# Altium integrated library National Semiconductor Interface.IntLib: 1433 symbols (part 43 of 51)
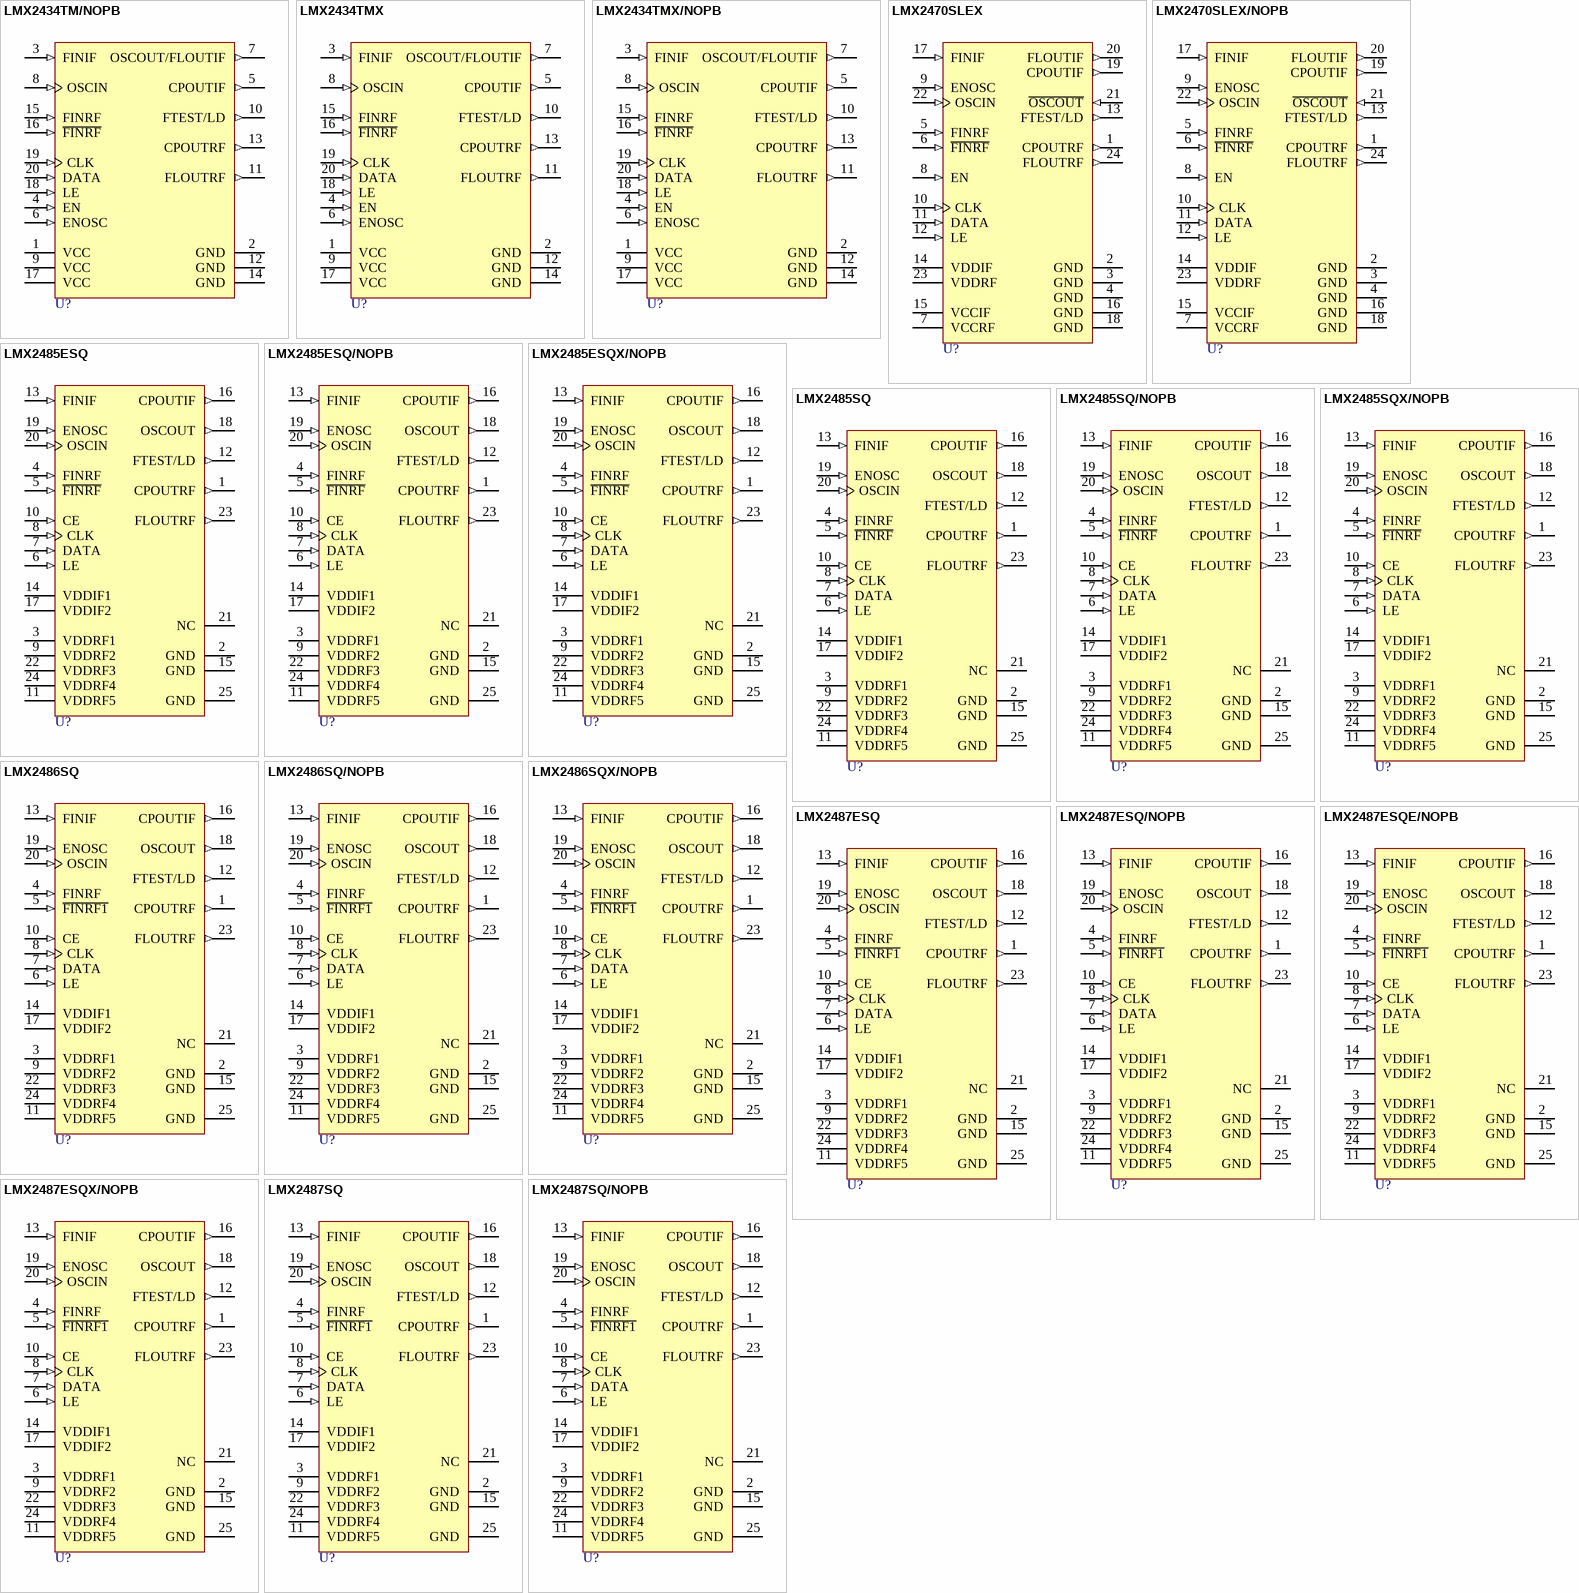
[diagram p166: symbols LMX2434TM/NOPB to LMX2487SQ/NOPB]

## LMX2470SLEX/NOPB
designator U?
2.6 GHz Delta-Sigma Fractional-N PLL with 800 MHz Integer-N PLL, 24-pin Laminate UCSP, Pb-Free; PartNumber: LMX2470SLEX/NOPB; Manufacturer: National Semiconductor; PackageTopMarking: NSXYTT*X2470*SLE; PowerWise: N; CompType: Interface IC; High-Reliability: Y; DatasheetVersion: Apr-2003; PackageVersion: revA, Jun-2001; PackageReference: SLE24A; PackageDescription: Ultra TCSP, Plastic, Laminated, 3.5 x 4.5 x 0.6mm Body, 24 Lead, .5mm Pitch; RoHS: Y; PinCount: 24; ComponentLink1Description: Manufacturer URL; ComponentLink1URL: http://www.national.com/; ComponentLink2Description: LMX2470 Datasheet; ComponentLink2URL: http://www.national.com/ds/LM/LMX2470.pdf; ComponentLink3Description: LMX2470 Web Page; ComponentLink3URL: http://www.national.com/pf/LM/LMX2470.html; ComponentLink4Description: SLE24A Package Page; ComponentLink4URL: http://www.national.com/packaging/folders/sle24a.html
footprint SLE24A (PQFN, 24-Leads (9x3 pads), Body 3.5x4.5mm, Pitch 0.5mm, NSC Recommended)
pins: 1 CPOUTRF (out), 2 GND (power), 3 GND (power), 4 GND (power), 5 FINRF (in), 6 ~{FINRF} (in), 7 VCCRF (power), 8 EN (in), 9 ENOSC (in), 10 CLK (in), 11 DATA (in), 12 LE (in), 13 FTEST/LD (out), 14 VDDIF (power), 15 VCCIF (power), 16 GND (power), 17 FINIF (in), 18 GND (power), 19 CPOUTIF (out), 20 FLOUTIF (out), 21 ~{OSCOUT} (in), 22 OSCIN (in), 23 VDDRF (power), 24 FLOUTRF (out)

## LMX2485ESQ
designator U?
Delta-Sigma Low Power Dual PLL for RF Personal Communications, 24-pin LLP; PartNumber: LMX2485ESQ; Manufacturer: National Semiconductor; PackageTopMarking: NS*UZXYTT*2485EDD; PowerWise: N; CompType: Interface IC; High-Reliability: Y; DatasheetVersion: Feb-2008; PackageVersion: revB, Aug-2003; PackageReference: SQA24A; PackageDescription: LLP, Plastic, Quad, 4 x 4 x 0.8mm Body, 24 Lead, 0.5mm Pitch, No Pullback; RoHS: Y; PinCount: 24; Code_JEDEC: MO-220-WGGD-6; ComponentLink1Description: Manufacturer URL; ComponentLink1URL: http://www.national.com/; ComponentLink2Description: LMX2485E Datasheet; ComponentLink2URL: http://www.national.com/ds/LM/LMX2485E.pdf; ComponentLink3Description: LMX2485E Web Page; ComponentLink3URL: http://www.national.com/pf/LM/LMX2485E.html; ComponentLink4Description: SQA24A Package Page; ComponentLink4URL: http://www.national.com/packaging/folders/sqa24a.html
footprint SQA24A (QFN, 24-Leads, Body 4x4mm, Pitch 0.5mm, Thermal Pad 2.7x2.7mm, NSC Recommended)
pins: 1 CPOUTRF (out), 2 GND (power), 3 VDDRF1 (power), 4 FINRF (in), 5 ~{FINRF} (in), 6 LE (in), 7 DATA (in), 8 CLK (in), 9 VDDRF2 (power), 10 CE (in), 11 VDDRF5 (power), 12 FTEST/LD (out), 13 FINIF (in), 14 VDDIF1 (power), 15 GND (power), 16 CPOUTIF (out), 17 VDDIF2 (power), 18 OSCOUT (out), 19 ENOSC (in), 20 OSCIN (in), 21 NC, 22 VDDRF3 (power), 23 FLOUTRF (out), 24 VDDRF4 (power), 25 GND (power)

## LMX2485ESQ/NOPB
designator U?
Delta-Sigma Low Power Dual PLL for RF Personal Communications, 24-pin LLP, Pb-Free; PartNumber: LMX2485ESQ/NOPB; Manufacturer: National Semiconductor; PackageTopMarking: NS*UZXYTT*2485EDD; PowerWise: N; CompType: Interface IC; High-Reliability: Y; DatasheetVersion: Feb-2008; PackageVersion: revB, Aug-2003; PackageReference: SQA24A; PackageDescription: LLP, Plastic, Quad, 4 x 4 x 0.8mm Body, 24 Lead, 0.5mm Pitch, No Pullback; RoHS: Y; PinCount: 24; Code_JEDEC: MO-220-WGGD-6; ComponentLink1Description: Manufacturer URL; ComponentLink1URL: http://www.national.com/; ComponentLink2Description: LMX2485E Datasheet; ComponentLink2URL: http://www.national.com/ds/LM/LMX2485E.pdf; ComponentLink3Description: LMX2485E Web Page; ComponentLink3URL: http://www.national.com/pf/LM/LMX2485E.html; ComponentLink4Description: SQA24A Package Page; ComponentLink4URL: http://www.national.com/packaging/folders/sqa24a.html
footprint SQA24A (QFN, 24-Leads, Body 4x4mm, Pitch 0.5mm, Thermal Pad 2.7x2.7mm, NSC Recommended)
pins: 1 CPOUTRF (out), 2 GND (power), 3 VDDRF1 (power), 4 FINRF (in), 5 ~{FINRF} (in), 6 LE (in), 7 DATA (in), 8 CLK (in), 9 VDDRF2 (power), 10 CE (in), 11 VDDRF5 (power), 12 FTEST/LD (out), 13 FINIF (in), 14 VDDIF1 (power), 15 GND (power), 16 CPOUTIF (out), 17 VDDIF2 (power), 18 OSCOUT (out), 19 ENOSC (in), 20 OSCIN (in), 21 NC, 22 VDDRF3 (power), 23 FLOUTRF (out), 24 VDDRF4 (power), 25 GND (power)

## LMX2485ESQX/NOPB
designator U?
Delta-Sigma Low Power Dual PLL for RF Personal Communications, 24-pin LLP, Pb-Free; PartNumber: LMX2485ESQX/NOPB; Manufacturer: National Semiconductor; PackageTopMarking: NS*UZXYTT*2485EDD; PowerWise: N; CompType: Interface IC; High-Reliability: Y; DatasheetVersion: Feb-2008; PackageVersion: revB, Aug-2003; PackageReference: SQA24A; PackageDescription: LLP, Plastic, Quad, 4 x 4 x 0.8mm Body, 24 Lead, 0.5mm Pitch, No Pullback; RoHS: Y; PinCount: 24; Code_JEDEC: MO-220-WGGD-6; ComponentLink1Description: Manufacturer URL; ComponentLink1URL: http://www.national.com/; ComponentLink2Description: LMX2485E Datasheet; ComponentLink2URL: http://www.national.com/ds/LM/LMX2485E.pdf; ComponentLink3Description: LMX2485E Web Page; ComponentLink3URL: http://www.national.com/pf/LM/LMX2485E.html; ComponentLink4Description: SQA24A Package Page; ComponentLink4URL: http://www.national.com/packaging/folders/sqa24a.html
footprint SQA24A (QFN, 24-Leads, Body 4x4mm, Pitch 0.5mm, Thermal Pad 2.7x2.7mm, NSC Recommended)
pins: 1 CPOUTRF (out), 2 GND (power), 3 VDDRF1 (power), 4 FINRF (in), 5 ~{FINRF} (in), 6 LE (in), 7 DATA (in), 8 CLK (in), 9 VDDRF2 (power), 10 CE (in), 11 VDDRF5 (power), 12 FTEST/LD (out), 13 FINIF (in), 14 VDDIF1 (power), 15 GND (power), 16 CPOUTIF (out), 17 VDDIF2 (power), 18 OSCOUT (out), 19 ENOSC (in), 20 OSCIN (in), 21 NC, 22 VDDRF3 (power), 23 FLOUTRF (out), 24 VDDRF4 (power), 25 GND (power)

## LMX2485SQ
designator U?
Delta-Sigma Low Power Dual PLL for RF Personal Communications, 24-pin LLP; PartNumber: LMX2485SQ; Manufacturer: National Semiconductor; PackageTopMarking: NS*UZXYTT*X2485DD; PowerWise: N; CompType: Interface IC; High-Reliability: Y; DatasheetVersion: Feb-2008; PackageVersion: revB, Aug-2003; PackageReference: SQA24A; PackageDescription: LLP, Plastic, Quad, 4 x 4 x 0.8mm Body, 24 Lead, 0.5mm Pitch, No Pullback; RoHS: Y; PinCount: 24; Code_JEDEC: MO-220-WGGD-6; ComponentLink1Description: Manufacturer URL; ComponentLink1URL: http://www.national.com/; ComponentLink2Description: LMX2485 Datasheet; ComponentLink2URL: http://www.national.com/ds/LM/LMX2485.pdf; ComponentLink3Description: LMX2485 Web Page; ComponentLink3URL: http://www.national.com/pf/LM/LMX2485.html; ComponentLink4Description: SQA24A Package Page; ComponentLink4URL: http://www.national.com/packaging/folders/sqa24a.html
footprint SQA24A (QFN, 24-Leads, Body 4x4mm, Pitch 0.5mm, Thermal Pad 2.7x2.7mm, NSC Recommended)
pins: 1 CPOUTRF (out), 2 GND (power), 3 VDDRF1 (power), 4 FINRF (in), 5 ~{FINRF} (in), 6 LE (in), 7 DATA (in), 8 CLK (in), 9 VDDRF2 (power), 10 CE (in), 11 VDDRF5 (power), 12 FTEST/LD (out), 13 FINIF (in), 14 VDDIF1 (power), 15 GND (power), 16 CPOUTIF (out), 17 VDDIF2 (power), 18 OSCOUT (out), 19 ENOSC (in), 20 OSCIN (in), 21 NC, 22 VDDRF3 (power), 23 FLOUTRF (out), 24 VDDRF4 (power), 25 GND (power)

## LMX2485SQ/NOPB
designator U?
Delta-Sigma Low Power Dual PLL for RF Personal Communications, 24-pin LLP, Pb-Free; PartNumber: LMX2485SQ/NOPB; Manufacturer: National Semiconductor; PackageTopMarking: NS*UZXYTT*X2485DD; PowerWise: N; CompType: Interface IC; High-Reliability: Y; DatasheetVersion: Feb-2008; PackageVersion: revB, Aug-2003; PackageReference: SQA24A; PackageDescription: LLP, Plastic, Quad, 4 x 4 x 0.8mm Body, 24 Lead, 0.5mm Pitch, No Pullback; RoHS: Y; PinCount: 24; Code_JEDEC: MO-220-WGGD-6; ComponentLink1Description: Manufacturer URL; ComponentLink1URL: http://www.national.com/; ComponentLink2Description: LMX2485 Datasheet; ComponentLink2URL: http://www.national.com/ds/LM/LMX2485.pdf; ComponentLink3Description: LMX2485 Web Page; ComponentLink3URL: http://www.national.com/pf/LM/LMX2485.html; ComponentLink4Description: SQA24A Package Page; ComponentLink4URL: http://www.national.com/packaging/folders/sqa24a.html
footprint SQA24A (QFN, 24-Leads, Body 4x4mm, Pitch 0.5mm, Thermal Pad 2.7x2.7mm, NSC Recommended)
pins: 1 CPOUTRF (out), 2 GND (power), 3 VDDRF1 (power), 4 FINRF (in), 5 ~{FINRF} (in), 6 LE (in), 7 DATA (in), 8 CLK (in), 9 VDDRF2 (power), 10 CE (in), 11 VDDRF5 (power), 12 FTEST/LD (out), 13 FINIF (in), 14 VDDIF1 (power), 15 GND (power), 16 CPOUTIF (out), 17 VDDIF2 (power), 18 OSCOUT (out), 19 ENOSC (in), 20 OSCIN (in), 21 NC, 22 VDDRF3 (power), 23 FLOUTRF (out), 24 VDDRF4 (power), 25 GND (power)

## LMX2485SQX/NOPB
designator U?
Delta-Sigma Low Power Dual PLL for RF Personal Communications, 24-pin LLP, Pb-Free; PartNumber: LMX2485SQX/NOPB; Manufacturer: National Semiconductor; PackageTopMarking: NS*UZXYTT*X2485DD; PowerWise: N; CompType: Interface IC; High-Reliability: Y; DatasheetVersion: Feb-2008; PackageVersion: revB, Aug-2003; PackageReference: SQA24A; PackageDescription: LLP, Plastic, Quad, 4 x 4 x 0.8mm Body, 24 Lead, 0.5mm Pitch, No Pullback; RoHS: Y; PinCount: 24; Code_JEDEC: MO-220-WGGD-6; ComponentLink1Description: Manufacturer URL; ComponentLink1URL: http://www.national.com/; ComponentLink2Description: LMX2485 Datasheet; ComponentLink2URL: http://www.national.com/ds/LM/LMX2485.pdf; ComponentLink3Description: LMX2485 Web Page; ComponentLink3URL: http://www.national.com/pf/LM/LMX2485.html; ComponentLink4Description: SQA24A Package Page; ComponentLink4URL: http://www.national.com/packaging/folders/sqa24a.html
footprint SQA24A (QFN, 24-Leads, Body 4x4mm, Pitch 0.5mm, Thermal Pad 2.7x2.7mm, NSC Recommended)
pins: 1 CPOUTRF (out), 2 GND (power), 3 VDDRF1 (power), 4 FINRF (in), 5 ~{FINRF} (in), 6 LE (in), 7 DATA (in), 8 CLK (in), 9 VDDRF2 (power), 10 CE (in), 11 VDDRF5 (power), 12 FTEST/LD (out), 13 FINIF (in), 14 VDDIF1 (power), 15 GND (power), 16 CPOUTIF (out), 17 VDDIF2 (power), 18 OSCOUT (out), 19 ENOSC (in), 20 OSCIN (in), 21 NC, 22 VDDRF3 (power), 23 FLOUTRF (out), 24 VDDRF4 (power), 25 GND (power)

## LMX2486SQ
designator U?
Delta-Sigma Low Power Dual PLL for RF Personal Communications, 24-pin LLP; PartNumber: LMX2486SQ; Manufacturer: National Semiconductor; PackageTopMarking: NS*UZXYTT*L2486SQ; PowerWise: N; CompType: Interface IC; High-Reliability: Y; DatasheetVersion: Jan-2006; PackageVersion: revB, Aug-2003; PackageReference: SQA24A; PackageDescription: LLP, Plastic, Quad, 4 x 4 x 0.8mm Body, 24 Lead, 0.5mm Pitch, No Pullback; RoHS: Y; PinCount: 24; Code_JEDEC: MO-220-WGGD-6; ComponentLink1Description: Manufacturer URL; ComponentLink1URL: http://www.national.com/; ComponentLink2Description: LMX2486 Datasheet; ComponentLink2URL: http://www.national.com/ds/LM/LMX2486.pdf; ComponentLink3Description: LMX2486 Web Page; ComponentLink3URL: http://www.national.com/pf/LM/LMX2486.html; ComponentLink4Description: SQA24A Package Page; ComponentLink4URL: http://www.national.com/packaging/folders/sqa24a.html
footprint SQA24A (QFN, 24-Leads, Body 4x4mm, Pitch 0.5mm, Thermal Pad 2.7x2.7mm, NSC Recommended)
pins: 1 CPOUTRF (out), 2 GND (power), 3 VDDRF1 (power), 4 FINRF (in), 5 ~{FINRF1} (in), 6 LE (in), 7 DATA (in), 8 CLK (in), 9 VDDRF2 (power), 10 CE (in), 11 VDDRF5 (power), 12 FTEST/LD (out), 13 FINIF (in), 14 VDDIF1 (power), 15 GND (power), 16 CPOUTIF (out), 17 VDDIF2 (power), 18 OSCOUT (out), 19 ENOSC (in), 20 OSCIN (in), 21 NC, 22 VDDRF3 (power), 23 FLOUTRF (out), 24 VDDRF4 (power), 25 GND (power)

## LMX2486SQ/NOPB
designator U?
Delta-Sigma Low Power Dual PLL for RF Personal Communications, 24-pin LLP, Pb-Free; PartNumber: LMX2486SQ/NOPB; Manufacturer: National Semiconductor; PackageTopMarking: NS*UZXYTT*L2486SQ; PowerWise: N; CompType: Interface IC; High-Reliability: Y; DatasheetVersion: Jan-2006; PackageVersion: revB, Aug-2003; PackageReference: SQA24A; PackageDescription: LLP, Plastic, Quad, 4 x 4 x 0.8mm Body, 24 Lead, 0.5mm Pitch, No Pullback; RoHS: Y; PinCount: 24; Code_JEDEC: MO-220-WGGD-6; ComponentLink1Description: Manufacturer URL; ComponentLink1URL: http://www.national.com/; ComponentLink2Description: LMX2486 Datasheet; ComponentLink2URL: http://www.national.com/ds/LM/LMX2486.pdf; ComponentLink3Description: LMX2486 Web Page; ComponentLink3URL: http://www.national.com/pf/LM/LMX2486.html; ComponentLink4Description: SQA24A Package Page; ComponentLink4URL: http://www.national.com/packaging/folders/sqa24a.html
footprint SQA24A (QFN, 24-Leads, Body 4x4mm, Pitch 0.5mm, Thermal Pad 2.7x2.7mm, NSC Recommended)
pins: 1 CPOUTRF (out), 2 GND (power), 3 VDDRF1 (power), 4 FINRF (in), 5 ~{FINRF1} (in), 6 LE (in), 7 DATA (in), 8 CLK (in), 9 VDDRF2 (power), 10 CE (in), 11 VDDRF5 (power), 12 FTEST/LD (out), 13 FINIF (in), 14 VDDIF1 (power), 15 GND (power), 16 CPOUTIF (out), 17 VDDIF2 (power), 18 OSCOUT (out), 19 ENOSC (in), 20 OSCIN (in), 21 NC, 22 VDDRF3 (power), 23 FLOUTRF (out), 24 VDDRF4 (power), 25 GND (power)

## LMX2486SQX/NOPB
designator U?
Delta-Sigma Low Power Dual PLL for RF Personal Communications, 24-pin LLP, Pb-Free; PartNumber: LMX2486SQX/NOPB; Manufacturer: National Semiconductor; PackageTopMarking: NS*UZXYTT*L2486SQ; PowerWise: N; CompType: Interface IC; High-Reliability: Y; DatasheetVersion: Jan-2006; PackageVersion: revB, Aug-2003; PackageReference: SQA24A; PackageDescription: LLP, Plastic, Quad, 4 x 4 x 0.8mm Body, 24 Lead, 0.5mm Pitch, No Pullback; RoHS: Y; PinCount: 24; Code_JEDEC: MO-220-WGGD-6; ComponentLink1Description: Manufacturer URL; ComponentLink1URL: http://www.national.com/; ComponentLink2Description: LMX2486 Datasheet; ComponentLink2URL: http://www.national.com/ds/LM/LMX2486.pdf; ComponentLink3Description: LMX2486 Web Page; ComponentLink3URL: http://www.national.com/pf/LM/LMX2486.html; ComponentLink4Description: SQA24A Package Page; ComponentLink4URL: http://www.national.com/packaging/folders/sqa24a.html
footprint SQA24A (QFN, 24-Leads, Body 4x4mm, Pitch 0.5mm, Thermal Pad 2.7x2.7mm, NSC Recommended)
pins: 1 CPOUTRF (out), 2 GND (power), 3 VDDRF1 (power), 4 FINRF (in), 5 ~{FINRF1} (in), 6 LE (in), 7 DATA (in), 8 CLK (in), 9 VDDRF2 (power), 10 CE (in), 11 VDDRF5 (power), 12 FTEST/LD (out), 13 FINIF (in), 14 VDDIF1 (power), 15 GND (power), 16 CPOUTIF (out), 17 VDDIF2 (power), 18 OSCOUT (out), 19 ENOSC (in), 20 OSCIN (in), 21 NC, 22 VDDRF3 (power), 23 FLOUTRF (out), 24 VDDRF4 (power), 25 GND (power)

## LMX2487ESQ
designator U?
Delta-Sigma Low Power Dual PLL for RF Personal Communications, 24-pin LLP; PartNumber: LMX2487ESQ; Manufacturer: National Semiconductor; PackageTopMarking: NS*UZXYTT*2487EDD; PowerWise: N; CompType: Interface IC; High-Reliability: Y; DatasheetVersion: May-2007; PackageVersion: revB, Aug-2003; PackageReference: SQA24A; PackageDescription: LLP, Plastic, Quad, 4 x 4 x 0.8mm Body, 24 Lead, 0.5mm Pitch, No Pullback; RoHS: Y; PinCount: 24; Code_JEDEC: MO-220-WGGD-6; ComponentLink1Description: Manufacturer URL; ComponentLink1URL: http://www.national.com/; ComponentLink2Description: LMX2487E Datasheet; ComponentLink2URL: http://www.national.com/ds/LM/LMX2487E.pdf; ComponentLink3Description: LMX2487E Web Page; ComponentLink3URL: http://www.national.com/pf/LM/LMX2487E.html; ComponentLink4Description: SQA24A Package Page; ComponentLink4URL: http://www.national.com/packaging/folders/sqa24a.html
footprint SQA24A (QFN, 24-Leads, Body 4x4mm, Pitch 0.5mm, Thermal Pad 2.7x2.7mm, NSC Recommended)
pins: 1 CPOUTRF (out), 2 GND (power), 3 VDDRF1 (power), 4 FINRF (in), 5 ~{FINRF1} (in), 6 LE (in), 7 DATA (in), 8 CLK (in), 9 VDDRF2 (power), 10 CE (in), 11 VDDRF5 (power), 12 FTEST/LD (out), 13 FINIF (in), 14 VDDIF1 (power), 15 GND (power), 16 CPOUTIF (out), 17 VDDIF2 (power), 18 OSCOUT (out), 19 ENOSC (in), 20 OSCIN (in), 21 NC, 22 VDDRF3 (power), 23 FLOUTRF (out), 24 VDDRF4 (power), 25 GND (power)

## LMX2487ESQ/NOPB
designator U?
Delta-Sigma Low Power Dual PLL for RF Personal Communications, 24-pin LLP, Pb-Free; PartNumber: LMX2487ESQ/NOPB; Manufacturer: National Semiconductor; PackageTopMarking: NS*UZXYTT*2487EDD; PowerWise: N; CompType: Interface IC; High-Reliability: Y; DatasheetVersion: May-2007; PackageVersion: revB, Aug-2003; PackageReference: SQA24A; PackageDescription: LLP, Plastic, Quad, 4 x 4 x 0.8mm Body, 24 Lead, 0.5mm Pitch, No Pullback; RoHS: Y; PinCount: 24; Code_JEDEC: MO-220-WGGD-6; ComponentLink1Description: Manufacturer URL; ComponentLink1URL: http://www.national.com/; ComponentLink2Description: LMX2487E Datasheet; ComponentLink2URL: http://www.national.com/ds/LM/LMX2487E.pdf; ComponentLink3Description: LMX2487E Web Page; ComponentLink3URL: http://www.national.com/pf/LM/LMX2487E.html; ComponentLink4Description: SQA24A Package Page; ComponentLink4URL: http://www.national.com/packaging/folders/sqa24a.html
footprint SQA24A (QFN, 24-Leads, Body 4x4mm, Pitch 0.5mm, Thermal Pad 2.7x2.7mm, NSC Recommended)
pins: 1 CPOUTRF (out), 2 GND (power), 3 VDDRF1 (power), 4 FINRF (in), 5 ~{FINRF1} (in), 6 LE (in), 7 DATA (in), 8 CLK (in), 9 VDDRF2 (power), 10 CE (in), 11 VDDRF5 (power), 12 FTEST/LD (out), 13 FINIF (in), 14 VDDIF1 (power), 15 GND (power), 16 CPOUTIF (out), 17 VDDIF2 (power), 18 OSCOUT (out), 19 ENOSC (in), 20 OSCIN (in), 21 NC, 22 VDDRF3 (power), 23 FLOUTRF (out), 24 VDDRF4 (power), 25 GND (power)

## LMX2487ESQE/NOPB
designator U?
Delta-Sigma Low Power Dual PLL for RF Personal Communications, 24-pin LLP, Pb-Free; PartNumber: LMX2487ESQE/NOPB; Manufacturer: National Semiconductor; PackageTopMarking: NS*UZXYTT*2487EDD; PowerWise: N; CompType: Interface IC; High-Reliability: Y; DatasheetVersion: May-2007; PackageVersion: revB, Aug-2003; PackageReference: SQA24A; PackageDescription: LLP, Plastic, Quad, 4 x 4 x 0.8mm Body, 24 Lead, 0.5mm Pitch, No Pullback; RoHS: Y; PinCount: 24; Code_JEDEC: MO-220-WGGD-6; ComponentLink1Description: Manufacturer URL; ComponentLink1URL: http://www.national.com/; ComponentLink2Description: LMX2487E Datasheet; ComponentLink2URL: http://www.national.com/ds/LM/LMX2487E.pdf; ComponentLink3Description: LMX2487E Web Page; ComponentLink3URL: http://www.national.com/pf/LM/LMX2487E.html; ComponentLink4Description: SQA24A Package Page; ComponentLink4URL: http://www.national.com/packaging/folders/sqa24a.html
footprint SQA24A (QFN, 24-Leads, Body 4x4mm, Pitch 0.5mm, Thermal Pad 2.7x2.7mm, NSC Recommended)
pins: 1 CPOUTRF (out), 2 GND (power), 3 VDDRF1 (power), 4 FINRF (in), 5 ~{FINRF1} (in), 6 LE (in), 7 DATA (in), 8 CLK (in), 9 VDDRF2 (power), 10 CE (in), 11 VDDRF5 (power), 12 FTEST/LD (out), 13 FINIF (in), 14 VDDIF1 (power), 15 GND (power), 16 CPOUTIF (out), 17 VDDIF2 (power), 18 OSCOUT (out), 19 ENOSC (in), 20 OSCIN (in), 21 NC, 22 VDDRF3 (power), 23 FLOUTRF (out), 24 VDDRF4 (power), 25 GND (power)

## LMX2487ESQX/NOPB
designator U?
Delta-Sigma Low Power Dual PLL for RF Personal Communications, 24-pin LLP, Pb-Free; PartNumber: LMX2487ESQX/NOPB; Manufacturer: National Semiconductor; PackageTopMarking: NS*UZXYTT*2487EDD; PowerWise: N; CompType: Interface IC; High-Reliability: Y; DatasheetVersion: May-2007; PackageVersion: revB, Aug-2003; PackageReference: SQA24A; PackageDescription: LLP, Plastic, Quad, 4 x 4 x 0.8mm Body, 24 Lead, 0.5mm Pitch, No Pullback; RoHS: Y; PinCount: 24; Code_JEDEC: MO-220-WGGD-6; ComponentLink1Description: Manufacturer URL; ComponentLink1URL: http://www.national.com/; ComponentLink2Description: LMX2487E Datasheet; ComponentLink2URL: http://www.national.com/ds/LM/LMX2487E.pdf; ComponentLink3Description: LMX2487E Web Page; ComponentLink3URL: http://www.national.com/pf/LM/LMX2487E.html; ComponentLink4Description: SQA24A Package Page; ComponentLink4URL: http://www.national.com/packaging/folders/sqa24a.html
footprint SQA24A (QFN, 24-Leads, Body 4x4mm, Pitch 0.5mm, Thermal Pad 2.7x2.7mm, NSC Recommended)
pins: 1 CPOUTRF (out), 2 GND (power), 3 VDDRF1 (power), 4 FINRF (in), 5 ~{FINRF1} (in), 6 LE (in), 7 DATA (in), 8 CLK (in), 9 VDDRF2 (power), 10 CE (in), 11 VDDRF5 (power), 12 FTEST/LD (out), 13 FINIF (in), 14 VDDIF1 (power), 15 GND (power), 16 CPOUTIF (out), 17 VDDIF2 (power), 18 OSCOUT (out), 19 ENOSC (in), 20 OSCIN (in), 21 NC, 22 VDDRF3 (power), 23 FLOUTRF (out), 24 VDDRF4 (power), 25 GND (power)

## LMX2487SQ
designator U?
Delta-Sigma Low Power Dual PLL for RF Personal Communications, 24-pin LLP; PartNumber: LMX2487SQ; Manufacturer: National Semiconductor; PackageTopMarking: NS*UZXYTT*L2487SQ; PowerWise: N; CompType: Interface IC; High-Reliability: Y; DatasheetVersion: Apr-2008; PackageVersion: revB, Aug-2003; PackageReference: SQA24A; PackageDescription: LLP, Plastic, Quad, 4 x 4 x 0.8mm Body, 24 Lead, 0.5mm Pitch, No Pullback; RoHS: Y; PinCount: 24; Code_JEDEC: MO-220-WGGD-6; ComponentLink1Description: Manufacturer URL; ComponentLink1URL: http://www.national.com/; ComponentLink2Description: LMX2487 Datasheet; ComponentLink2URL: http://www.national.com/ds/LM/LMX2487.pdf; ComponentLink3Description: LMX2487 Web Page; ComponentLink3URL: http://www.national.com/pf/LM/LMX2487.html; ComponentLink4Description: SQA24A Package Page; ComponentLink4URL: http://www.national.com/packaging/folders/sqa24a.html
footprint SQA24A (QFN, 24-Leads, Body 4x4mm, Pitch 0.5mm, Thermal Pad 2.7x2.7mm, NSC Recommended)
pins: 1 CPOUTRF (out), 2 GND (power), 3 VDDRF1 (power), 4 FINRF (in), 5 ~{FINRF1} (in), 6 LE (in), 7 DATA (in), 8 CLK (in), 9 VDDRF2 (power), 10 CE (in), 11 VDDRF5 (power), 12 FTEST/LD (out), 13 FINIF (in), 14 VDDIF1 (power), 15 GND (power), 16 CPOUTIF (out), 17 VDDIF2 (power), 18 OSCOUT (out), 19 ENOSC (in), 20 OSCIN (in), 21 NC, 22 VDDRF3 (power), 23 FLOUTRF (out), 24 VDDRF4 (power), 25 GND (power)

## LMX2487SQ/NOPB
designator U?
1.0 GHz - 6.0 GHz High Performance Delta-Sigma Low Power Dual PLLatinum Frequency Synthesizer with 3.0 GHz Integer PLL, 24-pin LLP, Pb-Free; PartNumber: LMX2487SQ/NOPB; Manufacturer: National Semiconductor; PackageTopMarking: NS*UZXYTT*L2487SQ; PowerWise: N; CompType: Interface IC; High-Reliability: Y; DatasheetVersion: Apr-2008; PackageVersion: revB, Aug-2003; PackageReference: SQA24A; PackageDescription: LLP, Plastic, Quad, 4 x 4 x 0.8mm Body, 24 Lead, 0.5mm Pitch, No Pullback; RoHS: Y; PinCount: 24; Code_JEDEC: MO-220-WGGD-6; ComponentLink1Description: Manufacturer URL; ComponentLink1URL: http://www.national.com/; ComponentLink2Description: LMX2487 Datasheet; ComponentLink2URL: http://www.national.com/ds/LM/LMX2487.pdf; ComponentLink3Description: LMX2487 Web Page; ComponentLink3URL: http://www.national.com/pf/LM/LMX2487.html; ComponentLink4Description: SQA24A Package Page; ComponentLink4URL: http://www.national.com/packaging/folders/sqa24a.html
footprint SQA24A (QFN, 24-Leads, Body 4x4mm, Pitch 0.5mm, Thermal Pad 2.7x2.7mm, NSC Recommended)
pins: 1 CPOUTRF (out), 2 GND (power), 3 VDDRF1 (power), 4 FINRF (in), 5 ~{FINRF1} (in), 6 LE (in), 7 DATA (in), 8 CLK (in), 9 VDDRF2 (power), 10 CE (in), 11 VDDRF5 (power), 12 FTEST/LD (out), 13 FINIF (in), 14 VDDIF1 (power), 15 GND (power), 16 CPOUTIF (out), 17 VDDIF2 (power), 18 OSCOUT (out), 19 ENOSC (in), 20 OSCIN (in), 21 NC, 22 VDDRF3 (power), 23 FLOUTRF (out), 24 VDDRF4 (power), 25 GND (power)

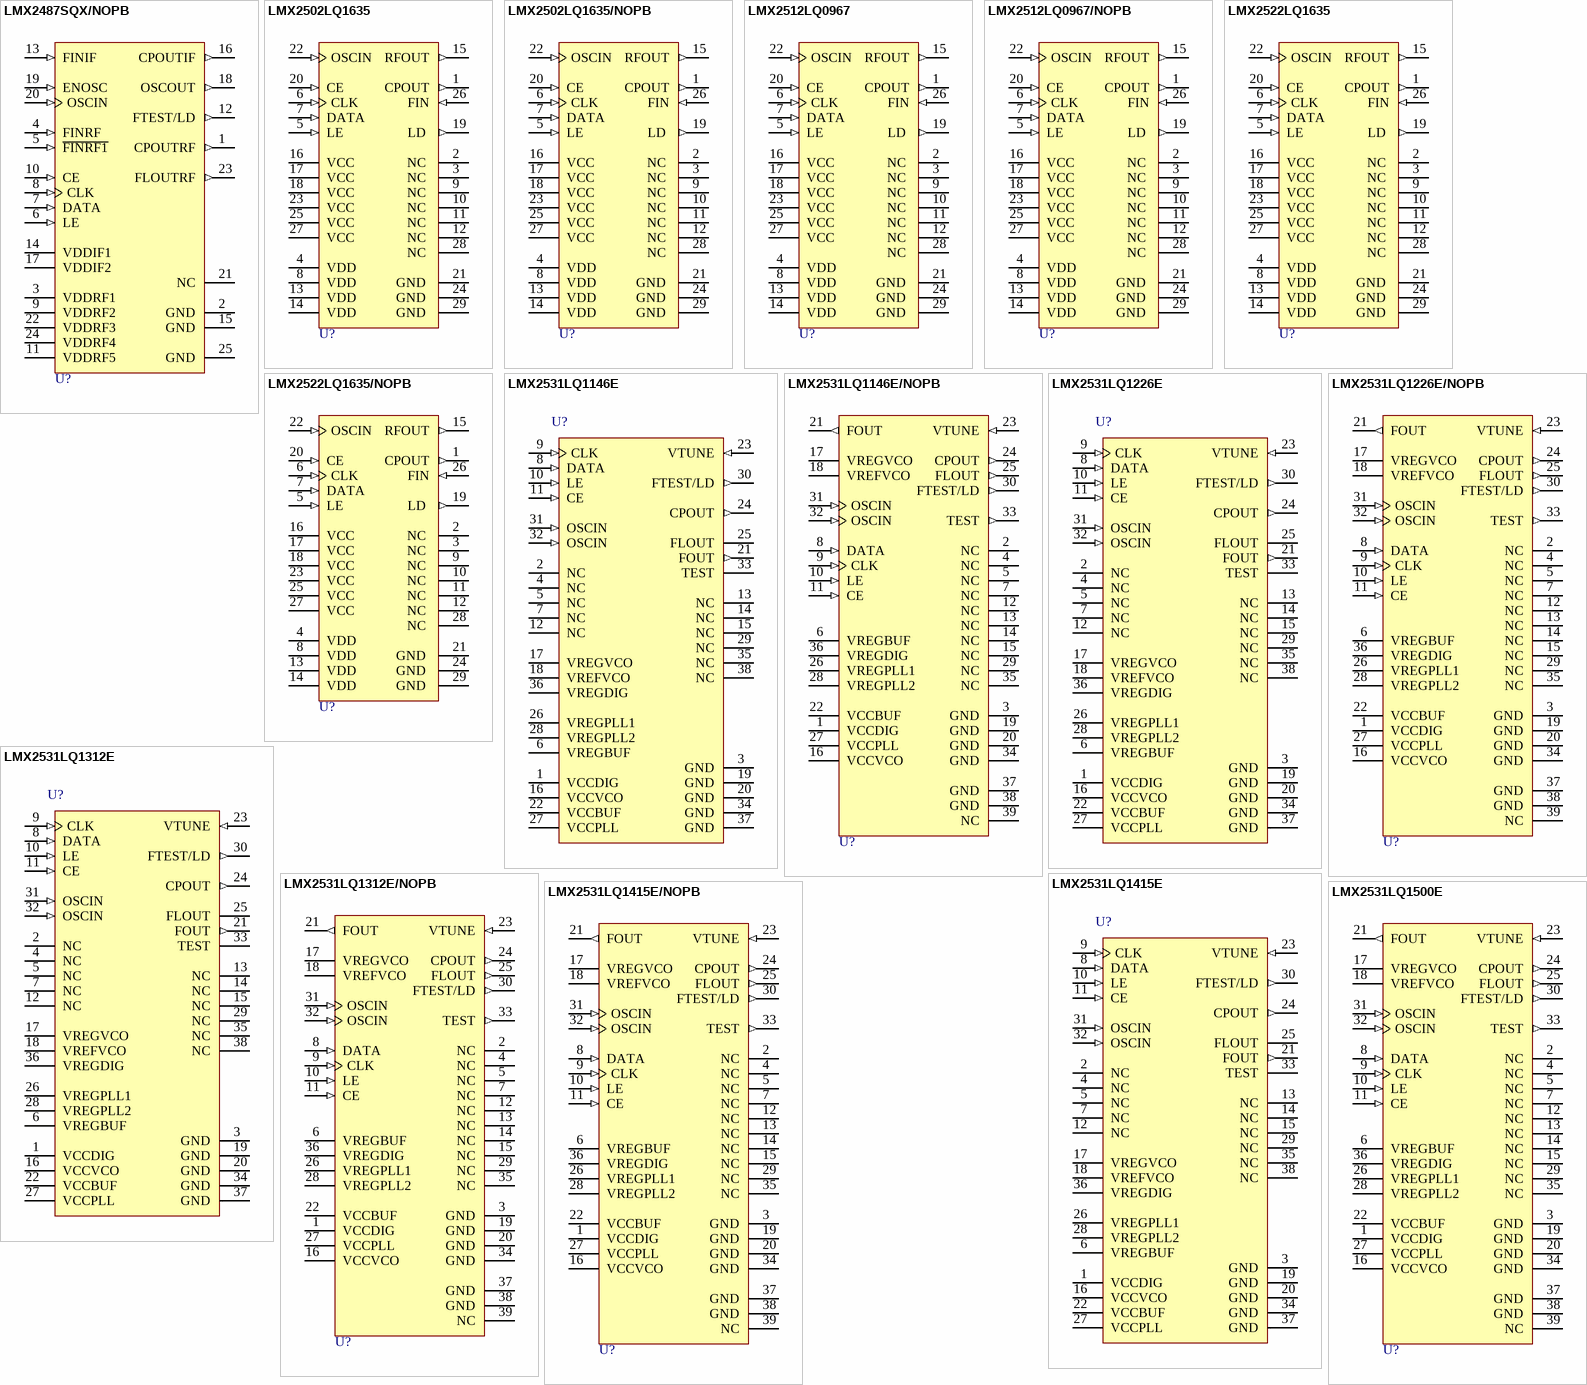
[diagram p105: symbols LMX2487SQX/NOPB to LMX2531LQ1500E]

## LMX2487SQX/NOPB
designator U?
1.0 GHz - 6.0 GHz High Performance Delta-Sigma Low Power Dual PLLatinum Frequency Synthesizer with 3.0 GHz Integer PLL, 24-pin LLP, Pb-Free; PartNumber: LMX2487SQX/NOPB; Manufacturer: National Semiconductor; PackageTopMarking: NS*UZXYTT*L2487SQ; PowerWise: N; CompType: Interface IC; High-Reliability: Y; DatasheetVersion: Apr-2008; PackageVersion: revB, Aug-2003; PackageReference: SQA24A; PackageDescription: LLP, Plastic, Quad, 4 x 4 x 0.8mm Body, 24 Lead, 0.5mm Pitch, No Pullback; RoHS: Y; PinCount: 24; Code_JEDEC: MO-220-WGGD-6; ComponentLink1Description: Manufacturer URL; ComponentLink1URL: http://www.national.com/; ComponentLink2Description: LMX2487 Datasheet; ComponentLink2URL: http://www.national.com/ds/LM/LMX2487.pdf; ComponentLink3Description: LMX2487 Web Page; ComponentLink3URL: http://www.national.com/pf/LM/LMX2487.html; ComponentLink4Description: SQA24A Package Page; ComponentLink4URL: http://www.national.com/packaging/folders/sqa24a.html
footprint SQA24A (QFN, 24-Leads, Body 4x4mm, Pitch 0.5mm, Thermal Pad 2.7x2.7mm, NSC Recommended)
pins: 1 CPOUTRF (out), 2 GND (power), 3 VDDRF1 (power), 4 FINRF (in), 5 ~{FINRF1} (in), 6 LE (in), 7 DATA (in), 8 CLK (in), 9 VDDRF2 (power), 10 CE (in), 11 VDDRF5 (power), 12 FTEST/LD (out), 13 FINIF (in), 14 VDDIF1 (power), 15 GND (power), 16 CPOUTIF (out), 17 VDDIF2 (power), 18 OSCOUT (out), 19 ENOSC (in), 20 OSCIN (in), 21 NC, 22 VDDRF3 (power), 23 FLOUTRF (out), 24 VDDRF4 (power), 25 GND (power)

## LMX2502LQ1635
designator U?
Frequency Synthesizer System with Integrated VCO, 28-pin LLP; PartNumber: LMX2502LQ1635; Manufacturer: National Semiconductor; PackageTopMarking: NS*GZXYTT*25021635; PowerWise: N; CompType: Interface IC; High-Reliability: Y; DatasheetVersion: Jun-2003; PackageVersion: revB, Jul-2001; PackageReference: LQA28A; PackageDescription: LLP, Plastic, Quad, 5 x 5 x 0.75mm Body, 28 Lead, 0.5mm Pitch; RoHS: N; PinCount: 28; Code_JEDEC: MO-220-WHHD-1; ComponentLink1Description: Manufacturer URL; ComponentLink1URL: http://www.national.com/; ComponentLink2Description: LMX2502 Datasheet; ComponentLink2URL: http://www.national.com/ds/LM/LMX2502.pdf; ComponentLink3Description: LMX2502 Web Page; ComponentLink3URL: http://www.national.com/pf/LM/LMX2502.html; ComponentLink4Description: LQA28A Package Page; ComponentLink4URL: http://www.national.com/packaging/folders/lqa28a.html
footprint LQA28A (PQFN, 28-Leads, Body 5x5mm, Pitch 0.5mm, Thermal Pad 3.3x3.3mm, NSC Recommended)
pins: 1 CPOUT (out), 2 NC , 3 NC , 4 VDD  (power), 5 LE  (in), 6 CLK  (in), 7 DATA  (in), 8 VDD  (power), 9 NC , 10 NC , 11 NC , 12 NC , 13 VDD  (power), 14 VDD  (power), 15 RFOUT (out), 16 VCC  (power), 17 VCC  (power), 18 VCC  (power), 19 LD  (out), 20 CE  (in), 21 GND  (power), 22 OSCIN (in), 23 VCC  (power), 24 GND  (power), 25 VCC  (power), 26 FIN (in), 27 VCC  (power), 28 NC , 29 GND  (power)

## LMX2502LQ1635/NOPB
designator U?
Frequency Synthesizer System with Integrated VCOs, 28-pin LLP, Pb-Free; PartNumber: LMX2502LQ1635/NOPB; Manufacturer: National Semiconductor; PackageTopMarking: NS*GZXYTT*25021635; PowerWise: N; CompType: Interface IC; High-Reliability: Y; DatasheetVersion: Jun-2003; PackageVersion: revB, Jul-2001; PackageReference: LQA28A; PackageDescription: LLP, Plastic, Quad, 5 x 5 x 0.75mm Body, 28 Lead, 0.5mm Pitch; RoHS: Y; PinCount: 28; Code_JEDEC: MO-220-WHHD-1; ComponentLink1Description: Manufacturer URL; ComponentLink1URL: http://www.national.com/; ComponentLink2Description: LMX2502 Datasheet; ComponentLink2URL: http://www.national.com/ds/LM/LMX2502.pdf; ComponentLink3Description: LMX2502 Web Page; ComponentLink3URL: http://www.national.com/pf/LM/LMX2502.html; ComponentLink4Description: LQA28A Package Page; ComponentLink4URL: http://www.national.com/packaging/folders/lqa28a.html
footprint LQA28A (PQFN, 28-Leads, Body 5x5mm, Pitch 0.5mm, Thermal Pad 3.3x3.3mm, NSC Recommended)
pins: 1 CPOUT (out), 2 NC , 3 NC , 4 VDD  (power), 5 LE  (in), 6 CLK  (in), 7 DATA  (in), 8 VDD  (power), 9 NC , 10 NC , 11 NC , 12 NC , 13 VDD  (power), 14 VDD  (power), 15 RFOUT (out), 16 VCC  (power), 17 VCC  (power), 18 VCC  (power), 19 LD  (out), 20 CE  (in), 21 GND  (power), 22 OSCIN (in), 23 VCC  (power), 24 GND  (power), 25 VCC  (power), 26 FIN (in), 27 VCC  (power), 28 NC , 29 GND  (power)

## LMX2512LQ0967
designator U?
Frequency Synthesizer System with Integrated VCO, 28-pin LLP; PartNumber: LMX2512LQ0967; Manufacturer: National Semiconductor; PackageTopMarking: NS*GZXYTT*25120967; PowerWise: N; CompType: Interface IC; High-Reliability: Y; DatasheetVersion: Jun-2003; PackageVersion: revB, Jul-2001; PackageReference: LQA28A; PackageDescription: LLP, Plastic, Quad, 5 x 5 x 0.75mm Body, 28 Lead, 0.5mm Pitch; RoHS: N; PinCount: 28; Code_JEDEC: MO-220-WHHD-1; ComponentLink1Description: Manufacturer URL; ComponentLink1URL: http://www.national.com/; ComponentLink2Description: LMX2512 Datasheet; ComponentLink2URL: http://www.national.com/ds/LM/LMX2512.pdf; ComponentLink3Description: LMX2512 Web Page; ComponentLink3URL: http://www.national.com/pf/LM/LMX2512.html; ComponentLink4Description: LQA28A Package Page; ComponentLink4URL: http://www.national.com/packaging/folders/lqa28a.html
footprint LQA28A (PQFN, 28-Leads, Body 5x5mm, Pitch 0.5mm, Thermal Pad 3.3x3.3mm, NSC Recommended)
pins: 1 CPOUT (out), 2 NC , 3 NC , 4 VDD  (power), 5 LE  (in), 6 CLK  (in), 7 DATA  (in), 8 VDD  (power), 9 NC , 10 NC , 11 NC , 12 NC , 13 VDD  (power), 14 VDD  (power), 15 RFOUT (out), 16 VCC  (power), 17 VCC  (power), 18 VCC  (power), 19 LD  (out), 20 CE  (in), 21 GND  (power), 22 OSCIN (in), 23 VCC  (power), 24 GND  (power), 25 VCC  (power), 26 FIN (in), 27 VCC  (power), 28 NC , 29 GND  (power)

## LMX2512LQ0967/NOPB
designator U?
Frequency Synthesizer System with Integrated VCO, 28-pin LLP, Pb-Free; PartNumber: LMX2512LQ0967/NOPB; Manufacturer: National Semiconductor; PackageTopMarking: NS*GZXYTT*25120967; PowerWise: N; CompType: Interface IC; High-Reliability: Y; DatasheetVersion: Jun-2003; PackageVersion: revB, Jul-2001; PackageReference: LQA28A; PackageDescription: LLP, Plastic, Quad, 5 x 5 x 0.75mm Body, 28 Lead, 0.5mm Pitch; RoHS: Y; PinCount: 28; Code_JEDEC: MO-220-WHHD-1; ComponentLink1Description: Manufacturer URL; ComponentLink1URL: http://www.national.com/; ComponentLink2Description: LMX2512 Datasheet; ComponentLink2URL: http://www.national.com/ds/LM/LMX2512.pdf; ComponentLink3Description: LMX2512 Web Page; ComponentLink3URL: http://www.national.com/pf/LM/LMX2512.html; ComponentLink4Description: LQA28A Package Page; ComponentLink4URL: http://www.national.com/packaging/folders/lqa28a.html
footprint LQA28A (PQFN, 28-Leads, Body 5x5mm, Pitch 0.5mm, Thermal Pad 3.3x3.3mm, NSC Recommended)
pins: 1 CPOUT (out), 2 NC , 3 NC , 4 VDD  (power), 5 LE  (in), 6 CLK  (in), 7 DATA  (in), 8 VDD  (power), 9 NC , 10 NC , 11 NC , 12 NC , 13 VDD  (power), 14 VDD  (power), 15 RFOUT (out), 16 VCC  (power), 17 VCC  (power), 18 VCC  (power), 19 LD  (out), 20 CE  (in), 21 GND  (power), 22 OSCIN (in), 23 VCC  (power), 24 GND  (power), 25 VCC  (power), 26 FIN (in), 27 VCC  (power), 28 NC , 29 GND  (power)

## LMX2522LQ1635
designator U?
PLLatinum Dual Frequency Synthesizer System with Integrated VCOs, 28-pin LLP; PartNumber: LMX2522LQ1635; Manufacturer: National Semiconductor; PackageTopMarking: NS*GZXYTT*25221635; PowerWise: N; CompType: Interface IC; High-Reliability: Y; DatasheetVersion: Jun-2003; PackageVersion: revB, Jul-2001; PackageReference: LQA28A; PackageDescription: LLP, Plastic, Quad, 5 x 5 x 0.75mm Body, 28 Lead, 0.5mm Pitch; RoHS: N; PinCount: 28; Code_JEDEC: MO-220-WHHD-1; ComponentLink1Description: Manufacturer URL; ComponentLink1URL: http://www.national.com/; ComponentLink2Description: LMX2522 Datasheet; ComponentLink2URL: http://www.national.com/ds/LM/LMX2522.pdf; ComponentLink3Description: LMX2522 Web Page; ComponentLink3URL: http://www.national.com/pf/LM/LMX2522.html; ComponentLink4Description: LQA28A Package Page; ComponentLink4URL: http://www.national.com/packaging/folders/lqa28a.html
footprint LQA28A (PQFN, 28-Leads, Body 5x5mm, Pitch 0.5mm, Thermal Pad 3.3x3.3mm, NSC Recommended)
pins: 1 CPOUT (out), 2 NC , 3 NC , 4 VDD  (power), 5 LE  (in), 6 CLK  (in), 7 DATA  (in), 8 VDD  (power), 9 NC , 10 NC , 11 NC , 12 NC , 13 VDD  (power), 14 VDD  (power), 15 RFOUT (out), 16 VCC  (power), 17 VCC  (power), 18 VCC  (power), 19 LD  (out), 20 CE  (in), 21 GND  (power), 22 OSCIN (in), 23 VCC  (power), 24 GND  (power), 25 VCC  (power), 26 FIN (in), 27 VCC  (power), 28 NC , 29 GND  (power)

## LMX2522LQ1635/NOPB
designator U?
PLLatinum Dual Frequency Synthesizer System with Integrated VCOs, 28-pin LLP, Pb-Free; PartNumber: LMX2522LQ1635/NOPB; Manufacturer: National Semiconductor; PackageTopMarking: NS*GZXYTT*25221635; PowerWise: N; CompType: Interface IC; High-Reliability: Y; DatasheetVersion: Jun-2003; PackageVersion: revB, Jul-2001; PackageReference: LQA28A; PackageDescription: LLP, Plastic, Quad, 5 x 5 x 0.75mm Body, 28 Lead, 0.5mm Pitch; RoHS: Y; PinCount: 28; Code_JEDEC: MO-220-WHHD-1; ComponentLink1Description: Manufacturer URL; ComponentLink1URL: http://www.national.com/; ComponentLink2Description: LMX2522 Datasheet; ComponentLink2URL: http://www.national.com/ds/LM/LMX2522.pdf; ComponentLink3Description: LMX2522 Web Page; ComponentLink3URL: http://www.national.com/pf/LM/LMX2522.html; ComponentLink4Description: LQA28A Package Page; ComponentLink4URL: http://www.national.com/packaging/folders/lqa28a.html
footprint LQA28A (PQFN, 28-Leads, Body 5x5mm, Pitch 0.5mm, Thermal Pad 3.3x3.3mm, NSC Recommended)
pins: 1 CPOUT (out), 2 NC , 3 NC , 4 VDD  (power), 5 LE  (in), 6 CLK  (in), 7 DATA  (in), 8 VDD  (power), 9 NC , 10 NC , 11 NC , 12 NC , 13 VDD  (power), 14 VDD  (power), 15 RFOUT (out), 16 VCC  (power), 17 VCC  (power), 18 VCC  (power), 19 LD  (out), 20 CE  (in), 21 GND  (power), 22 OSCIN (in), 23 VCC  (power), 24 GND  (power), 25 VCC  (power), 26 FIN (in), 27 VCC  (power), 28 NC , 29 GND  (power)

## LMX2531LQ1146E
designator U?
High Performance Frequency Synthesizer System with Integrated VCO, 36-pin LLP; PartNumber: LMX2531LQ1146E; Manufacturer: National Semiconductor; PackageTopMarking: NS*UZXYTT*311146E; PowerWise: Y; CompType: Interface IC; DatasheetVersion: Dec-2009; PackageVersion: revB, Feb-2008; PackageReference: LQA36D; PackageDescription: LLP, Plastic, Quad, 6 x 6 x 0.8mm Body, 36 Lead, 0.5mm Pitch, Custom; RoHS: Y; PinCount: 36; High-Reliability: Y; ComponentLink1Description: Manufacturer URL; ComponentLink1URL: http://www.national.com/; ComponentLink2Description: LMX2531LQ1146E Datasheet; ComponentLink2URL: http://www.national.com/ds/LM/LMX2531.pdf; ComponentLink3Description: LMX2531LQ1146E Web Page; ComponentLink3URL: http://www.national.com/pf/LM/LMX2531LQ1146E.html; ComponentLink4Description: LQA36A Package Page; ComponentLink4URL: http://www.national.com/packaging/folders/lqa36a.html
footprint LQA36D (PQFN, 36-Leads, Body 6x6mm, Pitch 0.5mm, NSC Recommended)
pins: 1 VCCDIG (power), 2 NC, 3 GND (power), 4 NC, 5 NC, 6 VREGBUF (power), 7 NC, 8 DATA (in), 9 CLK (in), 10 LE (in), 11 CE (in), 12 NC, 13 NC, 14 NC, 15 NC, 16 VCCVCO (power), 17 VREGVCO (power), 18 VREFVCO (power), 19 GND (power), 20 GND (power), 21 FOUT (out), 22 VCCBUF (power), 23 VTUNE (in), 24 CPOUT (out), 25 FLOUT (oc), 26 VREGPLL1 (power), 27 VCCPLL (power), 28 VREGPLL2 (power), 29 NC, 30 FTEST/LD (out), 31 OSCIN (in), 32 OSCIN (in), 33 TEST, 34 GND (power), 35 NC, 36 VREGDIG (power), 37 GND, 38 NC

## LMX2531LQ1146E/NOPB
designator U?
High Performance Frequency Synthesizer System with Integrated VCO, 36-pin LLP, Pb-Free; PartNumber: LMX2531LQ1146E/NOPB; Manufacturer: National Semiconductor; PackageTopMarking: NS*UZXYTTE#*311146E; PowerWise: Y; CompType: Interface IC; DatasheetVersion: Dec-2009; PackageVersion: revC, Oct-2003; PackageReference: LQA36A; PackageDescription: LLP, Plastic, Quad, 6 x 6 x 0.8mm Body, 36 Lead, 0.5mm Pitch, Custom; RoHS: Y; PinCount: 36; High-Reliability: Y; ComponentLink1Description: Manufacturer URL; ComponentLink1URL: http://www.national.com/; ComponentLink2Description: LMX2531 Datasheet; ComponentLink2URL: http://www.national.com/ds/LM/LMX2531.pdf; ComponentLink3Description: LMX2531 Web Page; ComponentLink3URL: http://www.national.com/pf/LM/LMX2531.html; ComponentLink4Description: LQA36D Package Page; ComponentLink4URL: http://www.national.com/packaging/folders/lqa36d.html
footprint LQA36A (PQFN, 36-Leads, Body 6x6mm, Pitch 0.5mm, NSC Recommended)
pins: 1 VCCDIG (power), 2 NC, 3 GND (power), 4 NC, 5 NC, 6 VREGBUF (power), 7 NC, 8 DATA (in), 9 CLK (in), 10 LE (in), 11 CE (in), 12 NC, 13 NC, 14 NC, 15 NC, 16 VCCVCO (power), 17 VREGVCO (power), 18 VREFVCO (power), 19 GND (power), 20 GND (power), 21 FOUT (out), 22 VCCBUF (power), 23 VTUNE (in), 24 CPOUT (out), 25 FLOUT (out), 26 VREGPLL1 (power), 27 VCCPLL (power), 28 VREGPLL2 (power), 29 NC, 30 FTEST/LD (out), 31 OSCIN (in), 32 OSCIN (in), 33 TEST (out), 34 GND (power), 35 NC, 36 VREGDIG (power), 37 GND (power), 38 GND (power), 39 NC

## LMX2531LQ1226E
designator U?
High Performance Frequency Synthesizer System with Integrated VCO, 36-pin LLP; PartNumber: LMX2531LQ1226E; Manufacturer: National Semiconductor; PackageTopMarking: NS*UZXYTT*311226E; PowerWise: Y; CompType: Interface IC; DatasheetVersion: Dec-2009; PackageVersion: revB, Feb-2008; PackageReference: LQA36D; PackageDescription: LLP, Plastic, Quad, 6 x 6 x 0.8mm Body, 36 Lead, 0.5mm Pitch, Custom; RoHS: Y; PinCount: 36; High-Reliability: Y; ComponentLink1Description: Manufacturer URL; ComponentLink1URL: http://www.national.com/; ComponentLink2Description: LMX2531LQ1226E Datasheet; ComponentLink2URL: http://www.national.com/ds/LM/LMX2531.pdf; ComponentLink3Description: LMX2531LQ1226E Web Page; ComponentLink3URL: http://www.national.com/pf/LM/LMX2531LQ1226E.html; ComponentLink4Description: LQA36A Package Page; ComponentLink4URL: http://www.national.com/packaging/folders/lqa36a.html
footprint LQA36D (PQFN, 36-Leads, Body 6x6mm, Pitch 0.5mm, NSC Recommended)
pins: 1 VCCDIG (power), 2 NC, 3 GND (power), 4 NC, 5 NC, 6 VREGBUF (power), 7 NC, 8 DATA (in), 9 CLK (in), 10 LE (in), 11 CE (in), 12 NC, 13 NC, 14 NC, 15 NC, 16 VCCVCO (power), 17 VREGVCO (power), 18 VREFVCO (power), 19 GND (power), 20 GND (power), 21 FOUT (out), 22 VCCBUF (power), 23 VTUNE (in), 24 CPOUT (out), 25 FLOUT (oc), 26 VREGPLL1 (power), 27 VCCPLL (power), 28 VREGPLL2 (power), 29 NC, 30 FTEST/LD (out), 31 OSCIN (in), 32 OSCIN (in), 33 TEST, 34 GND (power), 35 NC, 36 VREGDIG (power), 37 GND, 38 NC

## LMX2531LQ1226E/NOPB
designator U?
High Performance Frequency Synthesizer System with Integrated VCO, 36-pin LLP, Pb-Free; PartNumber: LMX2531LQ1226E/NOPB; Manufacturer: National Semiconductor; PackageTopMarking: NS*UZXYTTE#*311226E; PowerWise: Y; CompType: Interface IC; DatasheetVersion: Dec-2009; PackageVersion: revC, Oct-2003; PackageReference: LQA36A; PackageDescription: LLP, Plastic, Quad, 6 x 6 x 0.8mm Body, 36 Lead, 0.5mm Pitch, Custom; RoHS: Y; PinCount: 36; High-Reliability: Y; ComponentLink1Description: Manufacturer URL; ComponentLink1URL: http://www.national.com/; ComponentLink2Description: LMX2531 Datasheet; ComponentLink2URL: http://www.national.com/ds/LM/LMX2531.pdf; ComponentLink3Description: LMX2531 Web Page; ComponentLink3URL: http://www.national.com/pf/LM/LMX2531.html; ComponentLink4Description: LQA36D Package Page; ComponentLink4URL: http://www.national.com/packaging/folders/lqa36d.html
footprint LQA36A (PQFN, 36-Leads, Body 6x6mm, Pitch 0.5mm, NSC Recommended)
pins: 1 VCCDIG (power), 2 NC, 3 GND (power), 4 NC, 5 NC, 6 VREGBUF (power), 7 NC, 8 DATA (in), 9 CLK (in), 10 LE (in), 11 CE (in), 12 NC, 13 NC, 14 NC, 15 NC, 16 VCCVCO (power), 17 VREGVCO (power), 18 VREFVCO (power), 19 GND (power), 20 GND (power), 21 FOUT (out), 22 VCCBUF (power), 23 VTUNE (in), 24 CPOUT (out), 25 FLOUT (out), 26 VREGPLL1 (power), 27 VCCPLL (power), 28 VREGPLL2 (power), 29 NC, 30 FTEST/LD (out), 31 OSCIN (in), 32 OSCIN (in), 33 TEST (out), 34 GND (power), 35 NC, 36 VREGDIG (power), 37 GND (power), 38 GND (power), 39 NC

## LMX2531LQ1312E
designator U?
High Performance Frequency Synthesizer System with Integrated VCO, 36-pin LLP; PartNumber: LMX2531LQ1312E; Manufacturer: National Semiconductor; PackageTopMarking: NS*UZXYTT*311312E; PowerWise: Y; CompType: Interface IC; DatasheetVersion: Dec-2009; PackageVersion: revB, Feb-2008; PackageReference: LQA36D; PackageDescription: LLP, Plastic, Quad, 6 x 6 x 0.8mm Body, 36 Lead, 0.5mm Pitch, Custom; RoHS: Y; PinCount: 36; High-Reliability: Y; ComponentLink1Description: Manufacturer URL; ComponentLink1URL: http://www.national.com/; ComponentLink2Description: LMX2531LQ1312E Datasheet; ComponentLink2URL: http://www.national.com/ds/LM/LMX2531.pdf; ComponentLink3Description: LMX2531LQ1312E Web Page; ComponentLink3URL: http://www.national.com/pf/LM/LMX2531LQ1312E.html; ComponentLink4Description: LQA36A Package Page; ComponentLink4URL: http://www.national.com/packaging/folders/lqa36a.html
footprint LQA36D (PQFN, 36-Leads, Body 6x6mm, Pitch 0.5mm, NSC Recommended)
pins: 1 VCCDIG (power), 2 NC, 3 GND (power), 4 NC, 5 NC, 6 VREGBUF (power), 7 NC, 8 DATA (in), 9 CLK (in), 10 LE (in), 11 CE (in), 12 NC, 13 NC, 14 NC, 15 NC, 16 VCCVCO (power), 17 VREGVCO (power), 18 VREFVCO (power), 19 GND (power), 20 GND (power), 21 FOUT (out), 22 VCCBUF (power), 23 VTUNE (in), 24 CPOUT (out), 25 FLOUT (oc), 26 VREGPLL1 (power), 27 VCCPLL (power), 28 VREGPLL2 (power), 29 NC, 30 FTEST/LD (out), 31 OSCIN (in), 32 OSCIN (in), 33 TEST, 34 GND (power), 35 NC, 36 VREGDIG (power), 37 GND, 38 NC

## LMX2531LQ1312E/NOPB
designator U?
High Performance Frequency Synthesizer System with Integrated VCO, 36-pin LLP, Pb-Free; PartNumber: LMX2531LQ1312E/NOPB; Manufacturer: National Semiconductor; PackageTopMarking: NS*UZXYTTE#*311312E; PowerWise: Y; CompType: Interface IC; DatasheetVersion: Dec-2009; PackageVersion: revC, Oct-2003; PackageReference: LQA36A; PackageDescription: LLP, Plastic, Quad, 6 x 6 x 0.8mm Body, 36 Lead, 0.5mm Pitch, Custom; RoHS: Y; PinCount: 36; High-Reliability: Y; ComponentLink1Description: Manufacturer URL; ComponentLink1URL: http://www.national.com/; ComponentLink2Description: LMX2531 Datasheet; ComponentLink2URL: http://www.national.com/ds/LM/LMX2531.pdf; ComponentLink3Description: LMX2531 Web Page; ComponentLink3URL: http://www.national.com/pf/LM/LMX2531.html; ComponentLink4Description: LQA36D Package Page; ComponentLink4URL: http://www.national.com/packaging/folders/lqa36d.html
footprint LQA36A (PQFN, 36-Leads, Body 6x6mm, Pitch 0.5mm, NSC Recommended)
pins: 1 VCCDIG (power), 2 NC, 3 GND (power), 4 NC, 5 NC, 6 VREGBUF (power), 7 NC, 8 DATA (in), 9 CLK (in), 10 LE (in), 11 CE (in), 12 NC, 13 NC, 14 NC, 15 NC, 16 VCCVCO (power), 17 VREGVCO (power), 18 VREFVCO (power), 19 GND (power), 20 GND (power), 21 FOUT (out), 22 VCCBUF (power), 23 VTUNE (in), 24 CPOUT (out), 25 FLOUT (out), 26 VREGPLL1 (power), 27 VCCPLL (power), 28 VREGPLL2 (power), 29 NC, 30 FTEST/LD (out), 31 OSCIN (in), 32 OSCIN (in), 33 TEST (out), 34 GND (power), 35 NC, 36 VREGDIG (power), 37 GND (power), 38 GND (power), 39 NC

## LMX2531LQ1415E
designator U?
High Performance Frequency Synthesizer System with Integrated VCO, 36-pin LLP; PartNumber: LMX2531LQ1415E; Manufacturer: National Semiconductor; PackageTopMarking: NS*UZXYTT*311415E; PowerWise: Y; CompType: Interface IC; DatasheetVersion: Dec-2009; PackageVersion: revB, Feb-2008; PackageReference: LQA36D; PackageDescription: LLP, Plastic, Quad, 6 x 6 x 0.8mm Body, 36 Lead, 0.5mm Pitch, Custom; RoHS: Y; PinCount: 36; High-Reliability: Y; ComponentLink1Description: Manufacturer URL; ComponentLink1URL: http://www.national.com/; ComponentLink2Description: LMX2531LQ1415E Datasheet; ComponentLink2URL: http://www.national.com/ds/LM/LMX2531.pdf; ComponentLink3Description: LMX2531LQ1415E Web Page; ComponentLink3URL: http://www.national.com/pf/LM/LMX2531LQ1415E.html; ComponentLink4Description: LQA36A Package Page; ComponentLink4URL: http://www.national.com/packaging/folders/lqa36a.html
footprint LQA36D (PQFN, 36-Leads, Body 6x6mm, Pitch 0.5mm, NSC Recommended)
pins: 1 VCCDIG (power), 2 NC, 3 GND (power), 4 NC, 5 NC, 6 VREGBUF (power), 7 NC, 8 DATA (in), 9 CLK (in), 10 LE (in), 11 CE (in), 12 NC, 13 NC, 14 NC, 15 NC, 16 VCCVCO (power), 17 VREGVCO (power), 18 VREFVCO (power), 19 GND (power), 20 GND (power), 21 FOUT (out), 22 VCCBUF (power), 23 VTUNE (in), 24 CPOUT (out), 25 FLOUT (oc), 26 VREGPLL1 (power), 27 VCCPLL (power), 28 VREGPLL2 (power), 29 NC, 30 FTEST/LD (out), 31 OSCIN (in), 32 OSCIN (in), 33 TEST, 34 GND (power), 35 NC, 36 VREGDIG (power), 37 GND, 38 NC

## LMX2531LQ1415E/NOPB
designator U?
High Performance Frequency Synthesizer System with Integrated VCO, 36-pin LLP, Pb-Free; PartNumber: LMX2531LQ1415E/NOPB; Manufacturer: National Semiconductor; PackageTopMarking: NS*UZXYTTE#*311415E; PowerWise: Y; CompType: Interface IC; DatasheetVersion: Dec-2009; PackageVersion: revC, Oct-2003; PackageReference: LQA36A; PackageDescription: LLP, Plastic, Quad, 6 x 6 x 0.8mm Body, 36 Lead, 0.5mm Pitch, Custom; RoHS: Y; PinCount: 36; High-Reliability: Y; ComponentLink1Description: Manufacturer URL; ComponentLink1URL: http://www.national.com/; ComponentLink2Description: LMX2531 Datasheet; ComponentLink2URL: http://www.national.com/ds/LM/LMX2531.pdf; ComponentLink3Description: LMX2531 Web Page; ComponentLink3URL: http://www.national.com/pf/LM/LMX2531.html; ComponentLink4Description: LQA36D Package Page; ComponentLink4URL: http://www.national.com/packaging/folders/lqa36d.html
footprint LQA36A (PQFN, 36-Leads, Body 6x6mm, Pitch 0.5mm, NSC Recommended)
pins: 1 VCCDIG (power), 2 NC, 3 GND (power), 4 NC, 5 NC, 6 VREGBUF (power), 7 NC, 8 DATA (in), 9 CLK (in), 10 LE (in), 11 CE (in), 12 NC, 13 NC, 14 NC, 15 NC, 16 VCCVCO (power), 17 VREGVCO (power), 18 VREFVCO (power), 19 GND (power), 20 GND (power), 21 FOUT (out), 22 VCCBUF (power), 23 VTUNE (in), 24 CPOUT (out), 25 FLOUT (out), 26 VREGPLL1 (power), 27 VCCPLL (power), 28 VREGPLL2 (power), 29 NC, 30 FTEST/LD (out), 31 OSCIN (in), 32 OSCIN (in), 33 TEST (out), 34 GND (power), 35 NC, 36 VREGDIG (power), 37 GND (power), 38 GND (power), 39 NC

## LMX2531LQ1500E
designator U?
High Performance Frequency Synthesizer System with Integrated VCO, 38-pin LLP; PartNumber: LMX2531LQ1500E; Manufacturer: National Semiconductor; PackageTopMarking: NS*UZXYTT*311500EB; PowerWise: Y; CompType: Interface IC; DatasheetVersion: Dec-2009; PackageVersion: revC, Oct-2003; PackageReference: LQA36A; PackageDescription: LLP, Plastic, Quad, 6 x 6 x 0.8mm Body, 36 Lead, 0.5mm Pitch, Custom; RoHS: Y; PinCount: 36; High-Reliability: Y; ComponentLink1Description: Manufacturer URL; ComponentLink1URL: http://www.national.com/; ComponentLink2Description: LMX2531LQ1500EDatasheet; ComponentLink2URL: http://www.national.com/ds/LM/LMX2531.pdf; ComponentLink3Description: LMX2531LQ1500E Web Page; ComponentLink3URL: http://www.national.com/pf/LM/LMX2531LQ1500E.html; ComponentLink4Description: LQA36A Package Page; ComponentLink4URL: http://www.national.com/packaging/folders/lqa36a.html
footprint LQA36A (PQFN, 36-Leads, Body 6x6mm, Pitch 0.5mm, NSC Recommended)
pins: 1 VCCDIG (power), 2 NC, 3 GND (power), 4 NC, 5 NC, 6 VREGBUF (power), 7 NC, 8 DATA (in), 9 CLK (in), 10 LE (in), 11 CE (in), 12 NC, 13 NC, 14 NC, 15 NC, 16 VCCVCO (power), 17 VREGVCO (power), 18 VREFVCO (power), 19 GND (power), 20 GND (power), 21 FOUT (out), 22 VCCBUF (power), 23 VTUNE (in), 24 CPOUT (out), 25 FLOUT (out), 26 VREGPLL1 (power), 27 VCCPLL (power), 28 VREGPLL2 (power), 29 NC, 30 FTEST/LD (out), 31 OSCIN (in), 32 OSCIN (in), 33 TEST (out), 34 GND (power), 35 NC, 36 VREGDIG (power), 37 GND (power), 38 GND (power), 39 NC

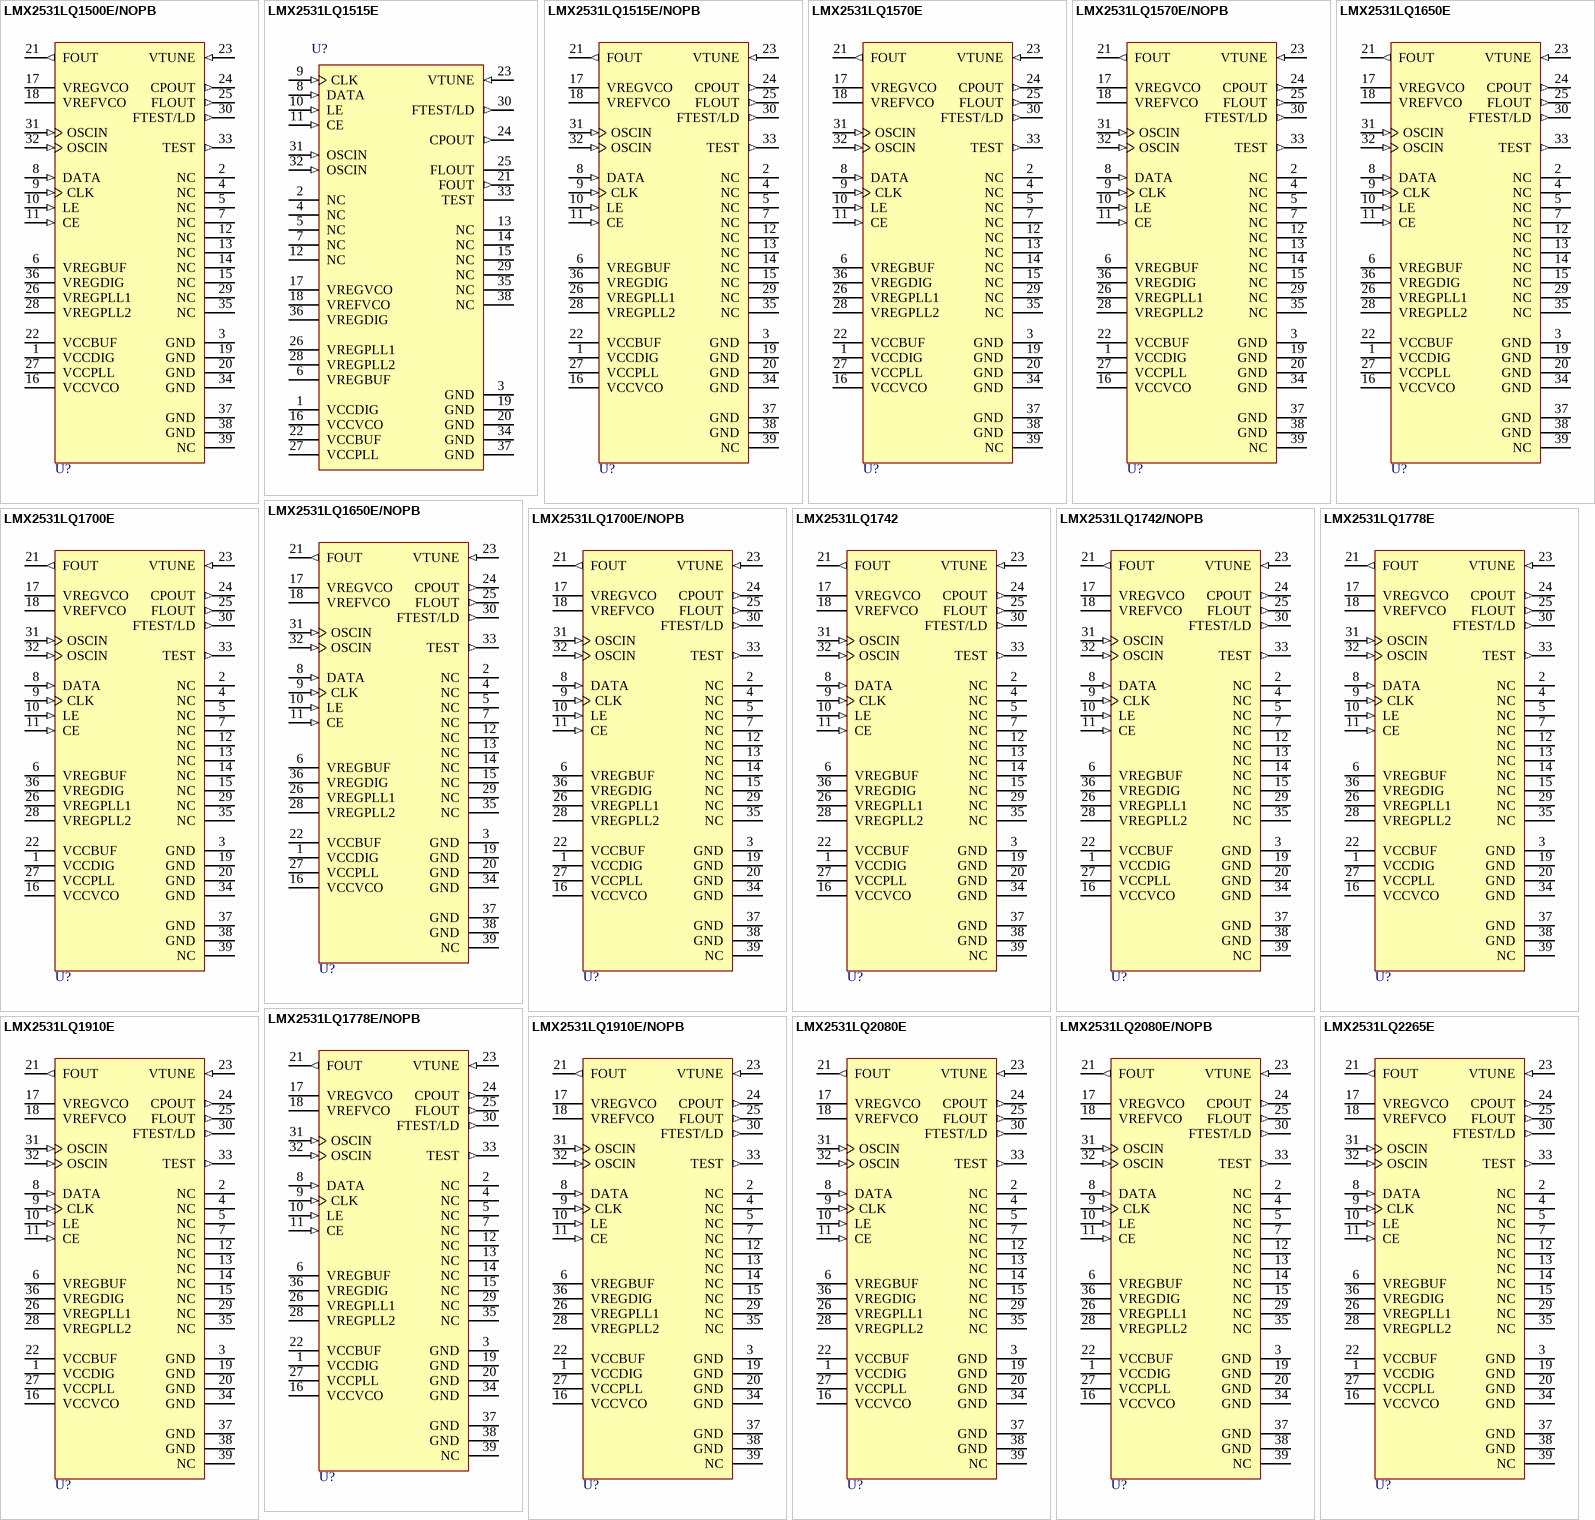
[diagram p106: symbols LMX2531LQ1500E/NOPB to LMX2531LQ2265E]

## LMX2531LQ1500E/NOPB
designator U?
High Performance Frequency Synthesizer System with Integrated VCO, 36-pin LLP, Pb-Free; PartNumber: LMX2531LQ1500E/NOPB; Manufacturer: National Semiconductor; PackageTopMarking: NS*UZXYTTE#*311500EB; PowerWise: N; CompType: Interface IC; High-Reliability: Y; DatasheetVersion: Dec-2009; PackageVersion: revC, Oct-2003; PackageReference: LQA36A; PackageDescription: LLP, Plastic, Quad, 6 x 6 x 0.8mm Body, 36 Lead, 0.5mm Pitch, Custom; RoHS: Y; PinCount: 36; ComponentLink1Description: Manufacturer URL; ComponentLink1URL: http://www.national.com/; ComponentLink2Description: LMX2531LQ1500E Datasheet; ComponentLink2URL: http://www.national.com/ds/LM/LMX2531.pdf; ComponentLink3Description: LMX2531LQ1500E Web Page; ComponentLink3URL: http://www.national.com/pf/LM/LMX2531LQ1500E.html; ComponentLink4Description: LQA36A Package Page; ComponentLink4URL: http://www.national.com/packaging/folders/lqa36a.html
footprint LQA36A (PQFN, 36-Leads, Body 6x6mm, Pitch 0.5mm, NSC Recommended)
pins: 1 VCCDIG (power), 2 NC, 3 GND (power), 4 NC, 5 NC, 6 VREGBUF (power), 7 NC, 8 DATA (in), 9 CLK (in), 10 LE (in), 11 CE (in), 12 NC, 13 NC, 14 NC, 15 NC, 16 VCCVCO (power), 17 VREGVCO (power), 18 VREFVCO (power), 19 GND (power), 20 GND (power), 21 FOUT (out), 22 VCCBUF (power), 23 VTUNE (in), 24 CPOUT (out), 25 FLOUT (out), 26 VREGPLL1 (power), 27 VCCPLL (power), 28 VREGPLL2 (power), 29 NC, 30 FTEST/LD (out), 31 OSCIN (in), 32 OSCIN (in), 33 TEST (out), 34 GND (power), 35 NC, 36 VREGDIG (power), 37 GND (power), 38 GND (power), 39 NC

## LMX2531LQ1515E
designator U?
High Performance Frequency Synthesizer System with Integrated VCO, 36-pin LLP; PartNumber: LMX2531LQ1515E; Manufacturer: National Semiconductor; PackageTopMarking: NS*UZXYTT*311515E; PowerWise: Y; CompType: Interface IC; DatasheetVersion: Dec-2009; PackageVersion: revB, Feb-2008; PackageReference: LQA36D; PackageDescription: LLP, Plastic, Quad, 6 x 6 x 0.8mm Body, 36 Lead, 0.5mm Pitch, Custom; RoHS: Y; PinCount: 36; High-Reliability: Y; ComponentLink1Description: Manufacturer URL; ComponentLink1URL: http://www.national.com/; ComponentLink2Description: LMX2531LQ1515E Datasheet; ComponentLink2URL: http://www.national.com/ds/LM/LMX2531.pdf; ComponentLink3Description: LMX2531LQ1515E Web Page; ComponentLink3URL: http://www.national.com/pf/LM/LMX2531LQ1515E.html; ComponentLink4Description: LQA36A Package Page; ComponentLink4URL: http://www.national.com/packaging/folders/lqa36a.html
footprint LQA36D (PQFN, 36-Leads, Body 6x6mm, Pitch 0.5mm, NSC Recommended)
pins: 1 VCCDIG (power), 2 NC, 3 GND (power), 4 NC, 5 NC, 6 VREGBUF (power), 7 NC, 8 DATA (in), 9 CLK (in), 10 LE (in), 11 CE (in), 12 NC, 13 NC, 14 NC, 15 NC, 16 VCCVCO (power), 17 VREGVCO (power), 18 VREFVCO (power), 19 GND (power), 20 GND (power), 21 FOUT (out), 22 VCCBUF (power), 23 VTUNE (in), 24 CPOUT (out), 25 FLOUT (oc), 26 VREGPLL1 (power), 27 VCCPLL (power), 28 VREGPLL2 (power), 29 NC, 30 FTEST/LD (out), 31 OSCIN (in), 32 OSCIN (in), 33 TEST, 34 GND (power), 35 NC, 36 VREGDIG (power), 37 GND, 38 NC